# EAGLE library part MAX-11632 (library MAX-11632)
MAX-11632 16-channel 12-Bit, 300ksps ADC with FIFO and Internal Reference https://www.digikey.com/product-detail/en/maxim-integrated/MAX11632EEG-/MAX11632EEG--ND/2591495
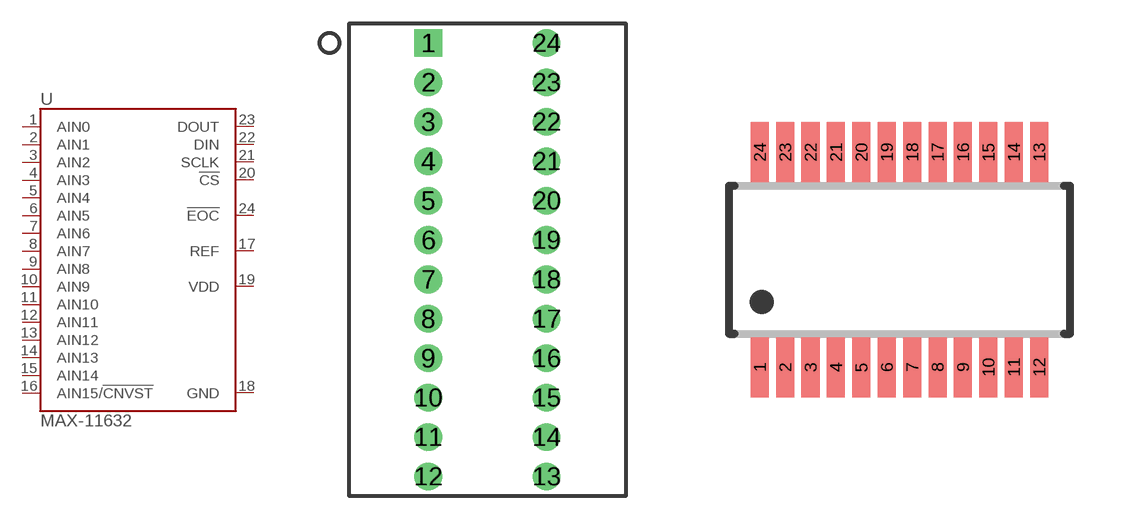
[diagram p0: symbol with the pads of ADPT24; footprints ADPT24, QSOP24]

Designator prefix U

## MAX-11632ADPT24W30  [ADPT24]
1  AIN0  in
2  AIN1  in
3  AIN2  in
4  AIN3  in
5  AIN4  in
6  AIN5  in
7  AIN6  in
8  AIN7  in
9  AIN8  in
10  AIN9  in
11  AIN10  in
12  AIN11  in
13  AIN12  in
14  AIN13  in
15  AIN14  in
16  AIN15/!CNVST  in
17  REF
18  GND  pwr
19  VDD  pwr
20  !CS
21  SCLK
22  DIN
23  DOUT
24  !EOC  out

## MAX-11632QSOP24  [QSOP24]
Pads as for ADPT24

## Footprint ADPT24 (pad centres in mm)
QSOP24 to DIP24 adapter with 0.1" pitch, thru hole. https://www.digikey.com/product-detail/en/chip-quik-inc/PA0030/PA0030-ND/5014777
drill 1.016 pad 1.778 square: 1 -3.81,12.7
drill 1.016 pad 1.778: 2 -3.81,10.16; 3 -3.81,7.62; 4 -3.81,5.08; 5 -3.81,2.54; 6 -3.81,0; 7 -3.81,-2.54; 8 -3.81,-5.08; 9 -3.81,-7.62; 10 -3.81,-10.16; 11 -3.81,-12.7; 12 -3.81,-15.24; 13 3.81,-15.24; 14 3.81,-12.7; 15 3.81,-10.16; 16 3.81,-7.62; 17 3.81,-5.08; 18 3.81,-2.54; 19 3.81,0; 20 3.81,2.54; 21 3.81,5.08; 22 3.81,7.62; 23 3.81,10.16; 24 3.81,12.7

## Footprint QSOP24 (pad centres in mm)
QSOP 24 Source: http://datasheets.maxim-ic.com/en/ds/MAX7313.pdf
smd 0.45 x 1.5: 1 -3.493,-2.69; 2 -2.857,-2.69; 3 -2.223,-2.69; 4 -1.587,-2.69; 5 -0.953,-2.69; 6 -0.318,-2.69; 7 0.318,-2.69; 8 0.953,-2.69; 9 1.587,-2.69; 10 2.223,-2.69; 11 2.857,-2.69; 12 3.493,-2.69; 13 3.493,2.69; 14 2.857,2.69; 15 2.223,2.69; 16 1.587,2.69; 17 0.953,2.69; 18 0.318,2.69; 19 -0.318,2.69; 20 -0.953,2.69; 21 -1.587,2.69; 22 -2.223,2.69; 23 -2.857,2.69; 24 -3.493,2.69